# EAGLE library part MICS-10 (library con-lumberg)
CONNECTOR
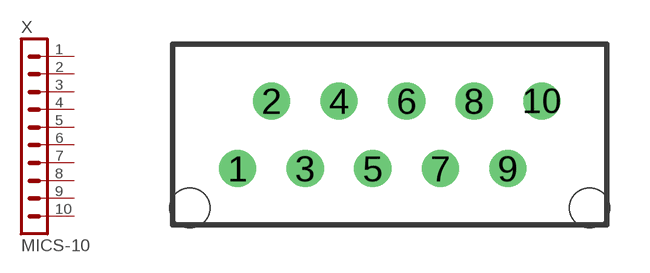
[diagram p2: symbol with the pads of MICS-10; footprint MICS-10]

Designator prefix X

## MICS-10  [MICS-10]
1  1  pas
2  2  pas
3  3  pas
4  4  pas
5  5  pas
6  6  pas
7  7  pas
8  8  pas
9  9  pas
10  10  pas

## Footprint MICS-10 (pad centres in mm)
CONNECTOR
drill 0.85 pad 1.397 round: 1 -5.715,-1.27; 2 -4.445,1.27; 3 -3.175,-1.27; 4 -1.905,1.27; 5 -0.635,-1.27; 6 0.635,1.27; 7 1.905,-1.27; 8 3.175,1.27; 9 4.445,-1.27; 10 5.715,1.27
hole 1.5 at 7.515,-2.75
hole 1.5 at -7.515,-2.75